# EAGLE library part 100K-1%_ARRAY (library ds_resistor)
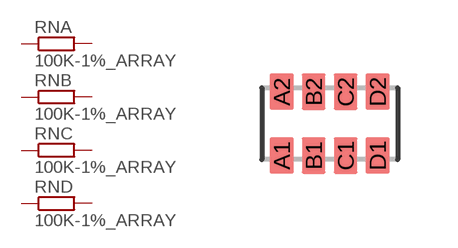
[diagram p0: symbol with the pads of _0603X4-1206; footprint _0603X4-1206]

Designator prefix RN; gates A=RN B=RN C=RN D=RN

## 100K-1%_ARRAY0603X4-1206 (DESCRIPTION: 4 ±1% 100kΩ 62.5mW ±200ppm/℃ 0603x4 Resistor Networks, Arrays ROHS; HQ_PART: RE0094681; LCSC_PART: C110374; MANUFACTURER: Yageo; MPN: YC164-FR-07100KL; PACKAGE: _0603X4-1206; ROHS: YES; VALUE: 100K 1%)  [_0603X4-1206]
A1  A:1  pas
A2  A:2  pas
B1  B:1  pas
B2  B:2  pas
C1  C:1  pas
C2  C:2  pas
D1  D:1  pas
D2  D:2  pas

## Footprint _0603X4-1206 (pad centres in mm)
smd 0.59 x 0.92: A1 -1.2,-0.8; A2 -1.2,0.8; B1 -0.4,-0.8; B2 -0.4,0.8; C1 0.4,-0.8; C2 0.4,0.8; D1 1.2,-0.8; D2 1.2,0.8